# Altium schematic symbol library CSS-1210TB.SchLib: 1 symbol
Pins are listed as number, name and electrical type; pins without a type are passive.

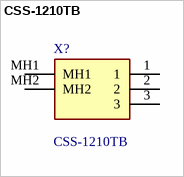
[diagram p0: symbol CSS-1210TB]

## CSS-1210TB
designator X?
SWITCH SLIDE SPDT 100MA 12V; Manufacturer_Name: Nidec Copal; Geometry.Height: 2.1mm; Mouser Part Number: 229-CSS-1210TB; Mouser Price/Stock: https://www.mouser.co.uk/ProductDetail/Nidec-Components/CSS-1210TB?qs=XeJtXLiO41RuZ%252BgY2j5i0A%3D%3D; Manufacturer_Part_Number: CSS-1210TB; Datasheet Link: https://www.nidec-copal-electronics.com/e/catalog/switch/css.pdf
footprint CSS1210TB
pins: 1, 2, 3, MH1, MH2